# EAGLE library part 645010114822 (library Wire_to_Board_Connectors_rev15d)
WR-WTB 3.96mm Male Locking Header, 10 Pins=>Code : Con_WTB_3.96_PCB_THT_645010114822 <http://katalog.we-online.de/media/thumbs2/eican/thb_Con_WTB_3.96_PCB_THT_6450xx114822_pf2.jpg> Details see: http://katalog.we-online.de/en/em/645_0xx_114_822 Created 2014-06-05, Karrer Zheng 2014 (C) Würth Elektronik
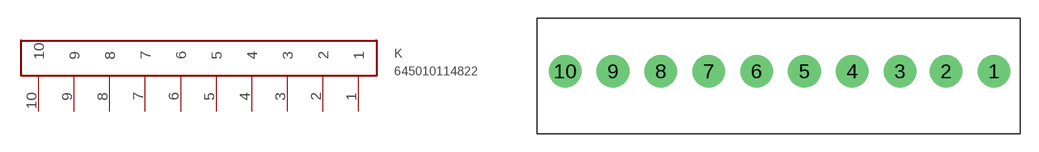
[diagram p2: symbol with the pads of 645010114822; footprint 645010114822]

Designator prefix K

## 645010114822  [645010114822]
1  1  pas
2  2  pas
3  3  pas
4  4  pas
5  5  pas
6  6  pas
7  7  pas
8  8  pas
9  9  pas
10  10  pas

## Footprint 645010114822 (pad centres in mm)
WR-WTB 3.96mm Male Locking Header, 10 Pins
drill 1.8: 1 1.98,0; 2 -1.98,0; 3 -5.79,0; 4 -9.75,0; 5 -13.71,0; 6 -17.67,0; 7 -21.63,0; 8 -25.59,0; 9 -29.55,0; 10 -33.51,0